# Altium footprint library PCB - DIODES - ROHM RGB LED 2709_6922 2.15MM.PcbLib: 1 footprints
Each footprint in its own frame and in the unit in brackets; x right, y up, seen from the top. Pads: shape width x height; smd on the part's side, far side on the other; paste and mask are expansions set on the pad; w line width, h text height; cw(c..) or ccw(c..) is an arc to the next point about the centre after c.
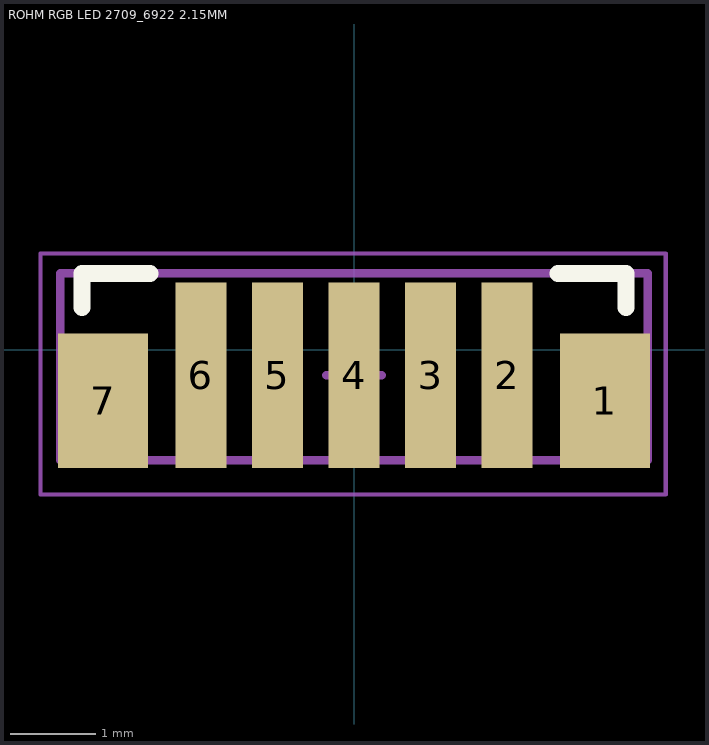
[diagram p0: the footprint, top view; thin cyan lines are the x and y axes]

## ROHM RGB LED 2709_6922 2.15MM [mm] "SMD RGB LED Indication, 7 Pads, Body 6.90x2.20mm, Flat Lead"
height 2.35
pads (7):
  rect 1.06x1.58 smd: 1(2.95,-0.6) 7(-2.95,-0.6)
  rect 0.6x2.18 smd: 2(1.8,-0.3) 3(0.9,-0.3) 4(0,-0.3) 5(-0.9,-0.3) 6(-1.8,-0.3)
Top Overlay:
  lines w0.2: -3.2,0.5 -3.2,0.9 -2.4,0.9 ; 2.4,0.9 3.2,0.9 3.2,0.5
Mechanical 13:
  lines w0.1: -3.45,-1.3 -3.45,0.9 3.45,0.9 3.45,-1.3 -3.45,-1.3
Mechanical 15 (Mech15):
  lines w0.05: -3.686,-1.7 3.664,-1.7 3.664,1.132 -3.686,1.132 -3.686,-1.7
  lines w0.1: -0.325,-0.3 0.325,-0.3 ; 0,-0.625 0,0.025
3D body "Rohm - LED 2709_6922 2.15MM v4 LENS.step": height 2.1, standoff 0.36, extent -2.7,0.25 2.7,0.95
3D body "Rohm - LED 2709_6922 2.15MM v4 BODY.step": height 2.35, standoff 0, extent -3.45,-1.25 3.45,0.95